# Altium schematic symbol library connector.SchLib: 29 symbols
Pins are listed as number, name and electrical type; pins without a type are passive.

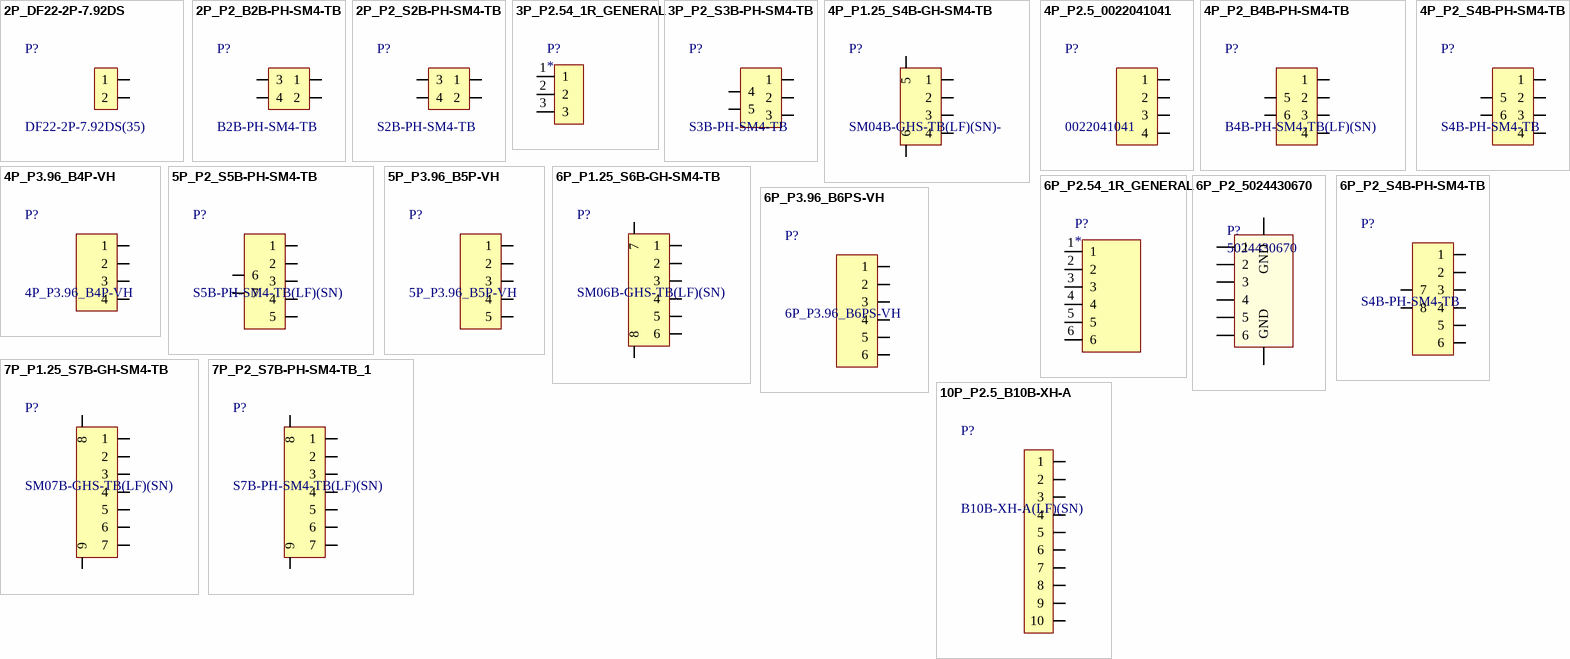
[diagram p0: symbols 2P_DF22-2P-7.92DS to 10P_P2.5_B10B-XH-A]

## 2P_DF22-2P-7.92DS
designator P?, comment DF22-2P-7.92DS(35)
CONN HEADER R/A 2POS 7.92MM; Manufacturer 1: Hirose Electric Co Ltd; Manufacturer Part Number 1: DF22-2P-7.92DS(35); Supplier 1: Digi-Key; Supplier Part Number 1: H125155-ND
footprint 2P_DF22-2P-7.92DS
pins: 1, 2

## 2P_P2_B2B-PH-SM4-TB
designator P?, comment B2B-PH-SM4-TB
CONN HEADER SMD 2POS 2MM; Manufacturer 1: JST Sales America Inc.; Manufacturer Part Number 1: B2B-PH-SM4-TB(LF)(SN); Supplier 1: Digi-Key; Supplier Part Number 1: 455-1734-1-ND
footprint 2P_P2_B2B-PH-SM4-TB
pins: 1, 2, 3, 4

## 2P_P2_S2B-PH-SM4-TB
designator P?, comment S2B-PH-SM4-TB
Manufacturer 1: JST Sales America Inc.; Manufacturer Part Number 1: S2B-PH-SM4-TB(LF)(SN); Supplier 1: Digi-Key; Supplier Part Number 1: 455-1749-1-ND
footprint 2P_P2_S2B-PH-SM4-TB
pins: 1, 2, 3, 4

## 3P_P2.54_1R_GENERAL
designator P?
Manufacturer 1: *; Manufacturer Part Number 1: *; Supplier 1: *; Supplier Part Number 1: *
footprint 3P_P2.54_1R_GENERAL
pins: 1, 2, 3

## 3P_P2_S3B-PH-SM4-TB
designator P?, comment S3B-PH-SM4-TB
Manufacturer 1: JST Sales America Inc.; Manufacturer Part Number 1: S3B-PH-SM4-TB(LF)(SN); Supplier 1: Digi-Key; Supplier Part Number 1: 455-1750-1-ND
footprint 3P_P2_S3B-PH-SM4-TB
pins: 1, 2, 3, 4, 5

## 4P_P1.25_S4B-GH-SM4-TB
designator P?, comment SM04B-GHS-TB(LF)(SN)-
CONN HEADER SMD R/A 4POS 1.25MM; Manufacturer 1: JST Sales America Inc.; Manufacturer Part Number 1: SM04B-GHS-TB(LF)(SN)-; Supplier 1: Digi-Key; Supplier Part Number 1: 455-1566-1-ND
footprint 4P_P1.25_S4B-GHS-SM4-TB
pins: 1, 2, 3, 4, 5, 6

## 4P_P2.5_0022041041
designator P?, comment 0022041041
CONN HEADER VERT 4POS 2.5MM; Manufacturer 1: Molex; Manufacturer Part Number 1: 0022041041; Supplier 1: Digi-Key; Supplier Part Number 1: WM18787-ND
footprint 4P_P2.5_0022041041
pins: 1, 2, 3, 4

## 4P_P2_B4B-PH-SM4-TB
designator P?, comment B4B-PH-SM4-TB(LF)(SN)
CONN HEADER SMD 4POS 2MM; Manufacturer 1: JST Sales America Inc.; Manufacturer Part Number 1: B4B-PH-SM4-TB(LF)(SN); Supplier 1: Digi-Key; Supplier Part Number 1: 455-1736-1-ND
footprint 4P_P2_B4B-PH-SM4-TB
pins: 1, 2, 3, 4, 5, 6

## 4P_P2_S4B-PH-SM4-TB
designator P?, comment S4B-PH-SM4-TB
CONN HEADER SMD R/A 4POS 2MM; Manufacturer 1: JST Sales America Inc.; Manufacturer Part Number 1: S4B-PH-SM4-TB(LF)(SN); Supplier 1: Digi-Key; Supplier Part Number 1: 455-1751-1-ND
footprint Model Name (Footprint not found)
footprint 4P_P2_S4B-PH-SM4-TB
pins: 1, 2, 3, 4, 5, 6

## 4P_P3.96_B4P-VH
designator P?
Manufacturer 1: JST Sales America Inc.; Manufacturer Part Number 1: B4P-VH(LF)(SN); Supplier 1: Digi-Key; Supplier Part Number 1: 455-1641-ND
footprint 4P_P3.96_B4P-VH
pins: 1, 2, 3, 4

## 5P_P2_S5B-PH-SM4-TB
designator P?, comment S5B-PH-SM4-TB(LF)(SN)
CONN HEADER SMD R/A 5POS 2MM; Manufacturer 1: JST Sales America Inc.; Manufacturer Part Number 1: S5B-PH-SM4-TB(LF)(SN); Supplier 1: Digi-Key; Supplier Part Number 1: 455-1752-1-ND
pins: 1, 2, 3, 4, 5, 6, 7

## 5P_P3.96_B5P-VH
designator P?
Manufacturer 1: JST Sales America Inc.; Manufacturer Part Number 1: B5P-VH(LF)(SN); Supplier 1: Digi-Key; Supplier Part Number 1: 455-1642-ND
footprint 5P_P3.96_B5P-VH
pins: 1, 2, 3, 4, 5

## 6P_P1.25_S6B-GH-SM4-TB
designator P?, comment SM06B-GHS-TB(LF)(SN)
CONN HEADER SMD R/A 6POS 1.25MM; Manufacturer 1: JST Sales America Inc.; Manufacturer Part Number 1: SM06B-GHS-TB(LF)(SN); Supplier 1: Digi-Key; Supplier Part Number 1: 455-1568-1-ND
footprint 6P_P1.25_S6B-GHS-SM4-TB
pins: 1, 2, 3, 4, 5, 6, 7, 8

## 6P_P2.54_1R_GENERAL
designator P?
Manufacturer 1: *; Manufacturer Part Number 1: *; Supplier 1: *; Supplier Part Number 1: *
footprint 6P_P2.54_1R_GENERAL
pins: 1, 2, 3, 4, 5, 6

## 6P_P2_5024430670
designator P?, comment 5024430670
CONN RCPT 6POS 0.079 TIN SMD; Manufacturer 1: Molex; Manufacturer Part Number 1: 5024430670; Supplier 1: Digi-Key; Supplier Part Number 1: WM2279CT-ND
footprint 6P_P2_5024430670
pins: 1, 2, 3, 4, 5, 6, GND, GND

## 6P_P2_S4B-PH-SM4-TB
designator P?, comment S4B-PH-SM4-TB
CONN HEADER SMD R/A 6POS 2MM; Manufacturer 1: JST Sales America Inc.; Manufacturer Part Number 1: S6B-PH-SM4-TB(LF)(SN); Supplier 1: Digi-Key; Supplier Part Number 1: 455-1753-1-ND
footprint 6P_P2_S6B-PH-SM4-TB
pins: 1, 2, 3, 4, 5, 6, 7, 8

## 6P_P3.96_B6PS-VH
designator P?
Connector Header Through Hole, Right Angle 6 position 0.156" (3.96mm); Manufacturer 1: JST Sales America Inc.; Manufacturer Part Number 1: B6PS-VH(LF)(SN); Supplier 1: Digi-Key; Supplier Part Number 1: 455-1652-ND
footprint 6P_P3.96_B6PS-VH
pins: 1, 2, 3, 4, 5, 6

## 7P_P1.25_S7B-GH-SM4-TB
designator P?, comment SM07B-GHS-TB(LF)(SN)
CONN HEADER SMD R/A 7POS 1.25MM; Manufacturer 1: JST Sales America Inc.; Manufacturer Part Number 1: SM07B-GHS-TB(LF)(SN); Supplier 1: Digi-Key; Supplier Part Number 1: 455-1569-1-ND
footprint 7P_P1.25_S7B-GHS-SM4-TB
pins: 1, 2, 3, 4, 5, 6, 7, 8, 9

## 7P_P2_S7B-PH-SM4-TB_1
designator P?, comment S7B-PH-SM4-TB(LF)(SN)
CONN HEADER SMD R/A 7POS 2MM; Manufacturer 1: JST Sales America Inc.; Manufacturer Part Number 1: S7B-PH-SM4-TB(LF)(SN); Supplier 1: Digi-Key; Supplier Part Number 1: 455-1754-1-ND
footprint 7P_P2_S7B-PH-SM4-TB
pins: 1, 2, 3, 4, 5, 6, 7, 8, 9

## 10P_P2.5_B10B-XH-A
designator P?, comment B10B-XH-A(LF)(SN)
CONN HEADER VERT 10POS 2.5MM; Manufacturer 1: JST Sales America Inc.; Manufacturer Part Number 1: B10B-XH-A(LF)(SN); Supplier 1: Digi-Key; Supplier Part Number 1: 455-2253-ND
footprint 10P_P2.5_B10B-XH-A
pins: 1, 2, 3, 4, 5, 6, 7, 8, 9, 10

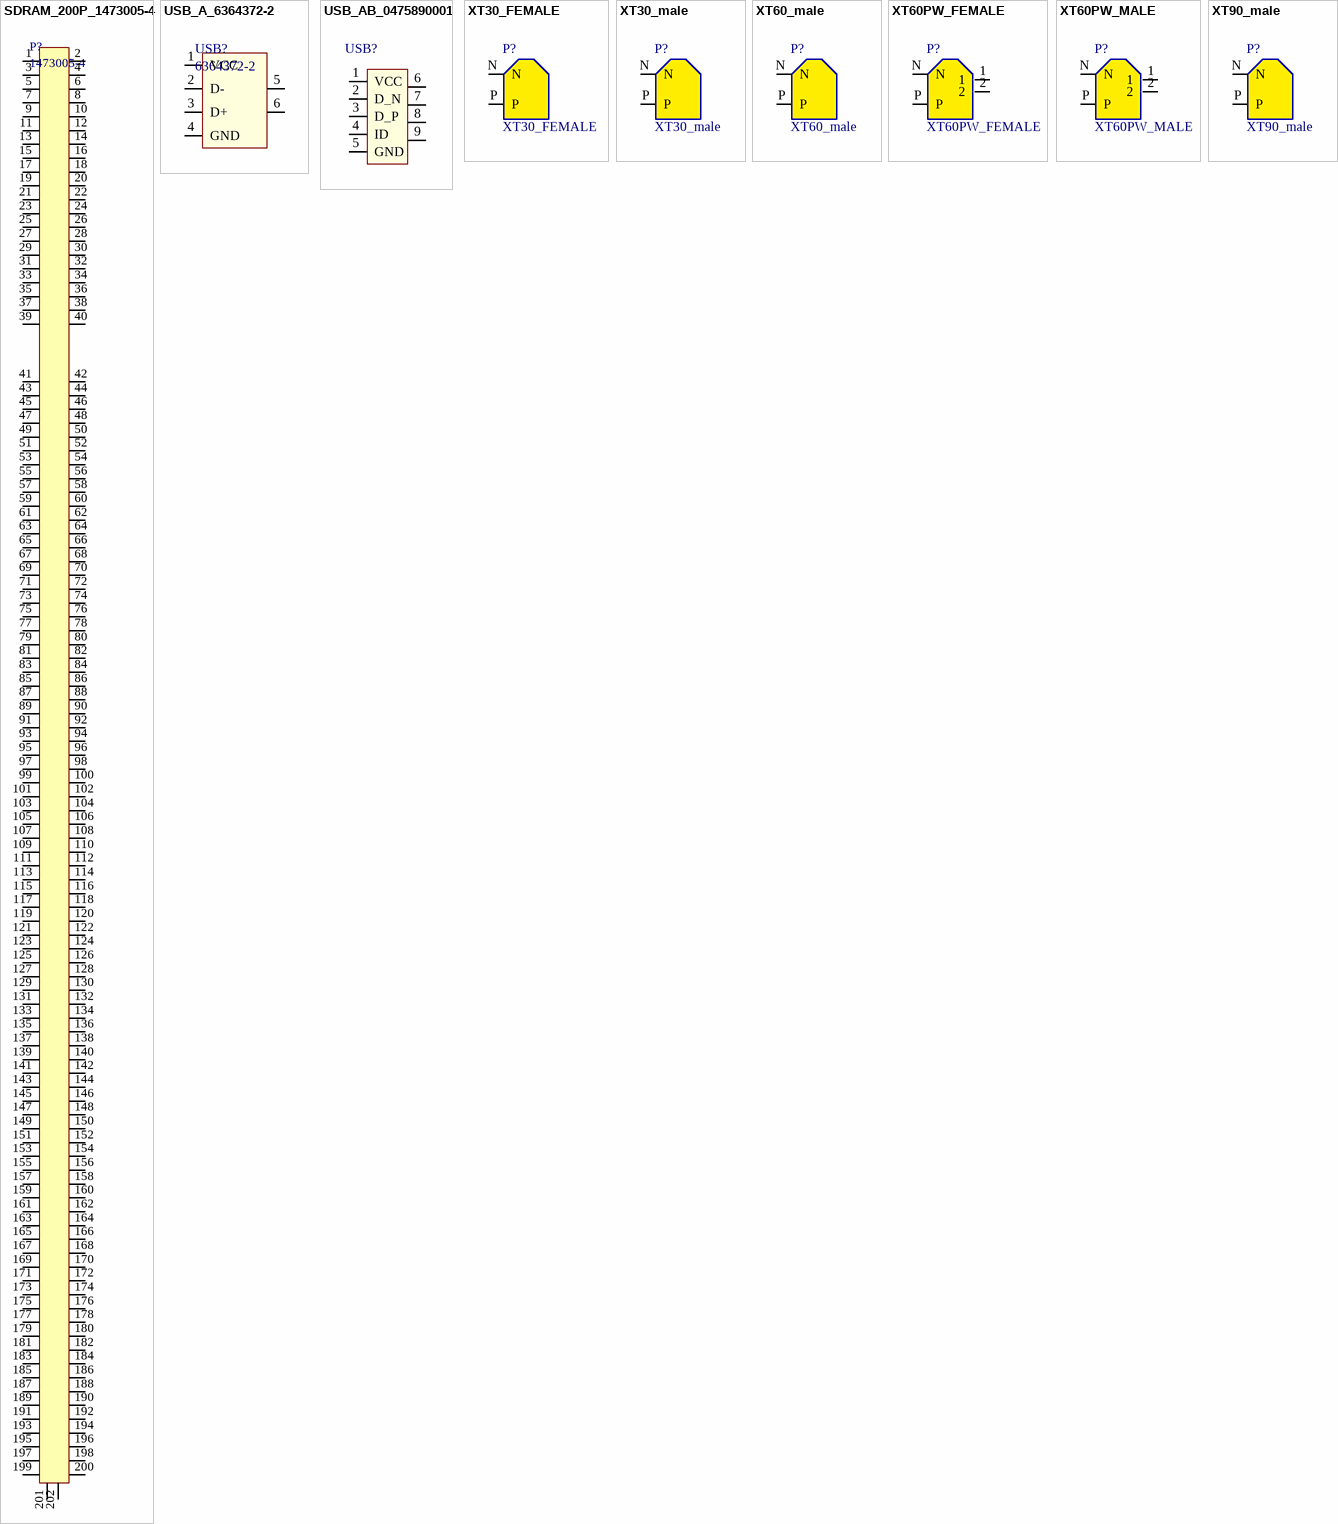
[diagram p1: symbols SDRAM_200P_1473005-4 to XT90_male]

## SDRAM_200P_1473005-4
designator P?, comment 1473005-4
CONN SKT SODIMM 200POS R/A SMD; Manufacturer 1: TE Connectivity AMP Connectors; Manufacturer Part Number 1: 1473005-4; Supplier 1: Digi-Key; Supplier Part Number 1: A114851-ND
footprint SDRAM_200P_1473005-4
pins: 1, 2, 3, 4, 5, 6, 7, 8, 9, 10, 11, 12, 13, 14, 15, 16, 17, 18, 19, 20, 21, 22, 23, 24, 25, 26, 27, 28, 29, 30, 31, 32, 33, 34, 35, 36, 37, 38, 39, 40, 41, 42, 43, 44, 45, 46, 47, 48, 49, 50, 51, 52, 53, 54, 55, 56, 57, 58, 59, 60, 61, 62, 63, 64, 65, 66, 67, 68, 69, 70, 71, 72, 73, 74, 75, 76, 77, 78, 79, 80, 81, 82, 83, 84, 85, 86, 87, 88, 89, 90, 91, 92, 93, 94, 95, 96, 97, 98, 99, 100, 101, 102, 103, 104, 105, 106, 107, 108, 109, 110, 111, 112, 113, 114, 115, 116, 117, 118, 119, 120, 121, 122, 123, 124, 125, 126, 127, 128, 129, 130, 131, 132, 133, 134, 135, 136, 137, 138, 139, 140, 141, 142, 143, 144, 145, 146, 147, 148, 149, 150, 151, 152, 153, 154, 155, 156, 157, 158, 159, 160, 161, 162, 163, 164, 165, 166, 167, 168, 169, 170, 171, 172, 173, 174, 175, 176, 177, 178, 179, 180, 181, 182, 183, 184, 185, 186, 187, 188, 189, 190, 191, 192, 193, 194, 195, 196, 197, 198, 199, 200, 201, 202

## USB_A_6364372-2
designator USB?, comment 6364372-2
CONN RCPT USB2.0 TYPEA 4POS R/A; Manufacturer 1: TE Connectivity AMP Connectors; Supplier Part Number 1: A122647-ND; Manufacturer Part Number 1: 6364372-2; Supplier 1: Digi-Key
footprint USB_A_6364372-2
pins: 1 VCC, 2 D-, 3 D+, 4 GND, 5, 6

## USB_AB_0475890001
designator USB?
CONN RCPT MICRO USB AB 5P SMD RA; Manufacturer 1: Molex; Manufacturer Part Number 1: 0475890001; Supplier Part Number 1: WM17143CT-ND; Supplier 1: Digi-Key
footprint USB_AB_0475890001
pins: 1 VCC, 2 D_N, 3 D_P, 4 ID, 5 GND, 6, 7, 8, 9

## XT30_FEMALE
designator P?
Manufacturer Part Number 1: XT30; Manufacturer 1: *; Supplier 1: hobbyking; Supplier Part Number 1: XT30
footprint XT30_FEMALE
pins: N, P

## XT30_male
designator P?
Manufacturer Part Number 1: XT30; Manufacturer 1: *; Supplier 1: hobbyking; Supplier Part Number 1: XT30; ComponentLink1Description: Buy; ComponentLink1URL: https://hobbyking.com/en_us/xt30u-m-f-male-female-5pairs-per-bag.html
footprint XT30_male
pins: N, P

## XT60_male
designator P?
Manufacturer 1: SparkFun Electronics; Manufacturer Part Number 1: PRT-10474; Supplier 1: Digi-Key; Supplier Part Number 1: 1568-1816-ND
footprint XT60_male
pins: N, P

## XT60PW_FEMALE
designator P?
footprint XT60PW_FEMALE
pins: 1, 2, N, P

## XT60PW_MALE
designator P?
footprint XT60PW_MALE
pins: 1, 2, N, P

## XT90_male
designator P?
Manufacturer Part Number 1: XT90; Manufacturer 1: *; Supplier 1: hobbyking; Supplier Part Number 1: XT90; ComponentLink1Description: Buy; ComponentLink1URL: https://hobbyking.com/en_us/nylonxt90connectorsmale-female-5pairs.html
footprint XT90_male
pins: N, P